# Altium schematic symbol library 8通道刺激仪.SchLib: 20 symbols
Pins are listed as number, name and electrical type; pins without a type are passive.

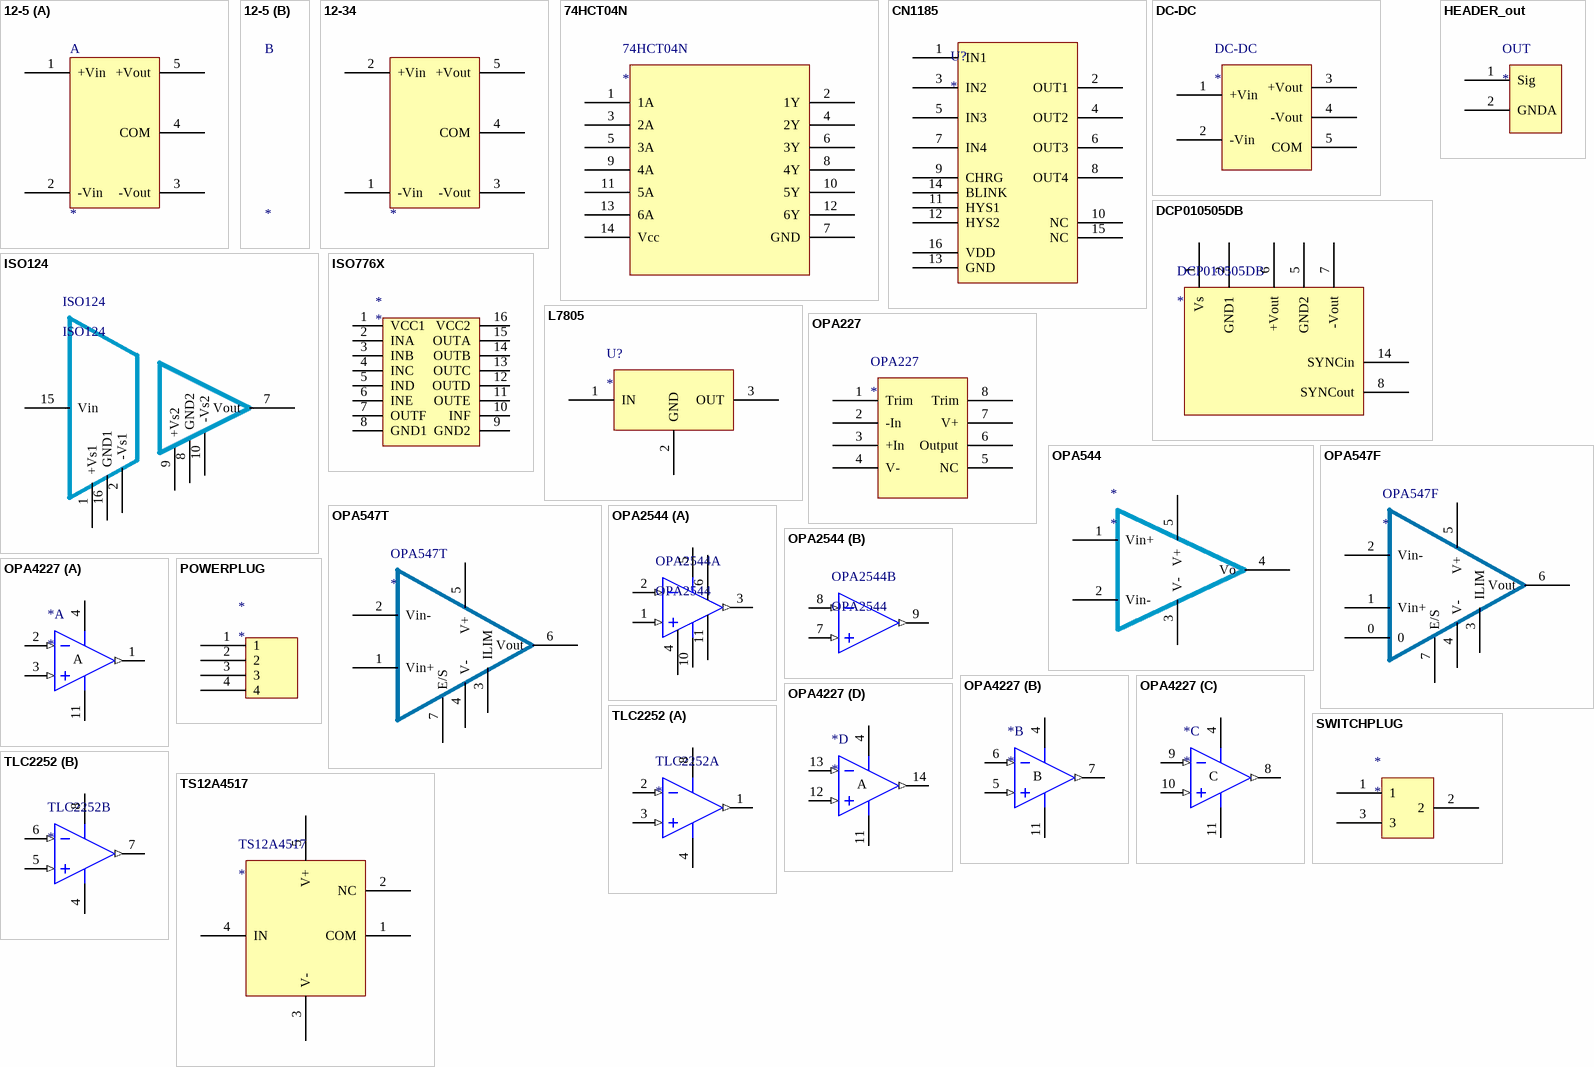
[diagram p0: symbols 12-5 to TS12A4517]

## 12-5
designator ?
part A pins: 1 +Vin, 2 -Vin, 3 -Vout, 4 COM, 5 +Vout

## 12-34
designator ?
pins: 1 -Vin, 2 +Vin, 3 -Vout, 4 COM, 5 +Vout

## 74HCT04N
designator 74HCT04N
footprint 74HCT04N(DIP14)
pins: 1 1A, 2 1Y, 3 2A, 4 2Y, 5 3A, 6 3Y, 7 GND, 8 4Y, 9 4A, 10 5Y, 11 5A, 12 6Y, 13 6A, 14 Vcc

## CN1185
designator U?
pins: 1 IN1, 2 OUT1, 3 IN2, 4 OUT2, 5 IN3, 6 OUT3, 7 IN4, 8 OUT4, 9 CHRG, 10 NC, 11 HYS1, 12 HYS2, 13 GND, 14 BLINK, 15 NC, 16 VDD

## DC-DC
designator DC-DC
footprint DCDC
pins: 1 +Vin, 2 -Vin, 3 +Vout, 4 -Vout, 5 COM

## DCP010505DB
designator DCP010505DB
footprint DCP010505DB(PDIP)
footprint dip14 (DIP; 14 Leads; Row Spacing 7.62 mm; Pitch 2.54 mm)
pins: 1 Vs, 2 GND1, 5 GND2, 6 +Vout, 7 -Vout, 8 SYNCout, 14 SYNCin

## HEADER_out
designator OUT
footprint HEADER_out
pins: 1 Sig, 2 GNDA

## ISO124
designator ISO124
footprint ISO124(P)
footprint dip-16 (DIP; 16 Leads; Row Spacing 7.62 mm; Pitch 2.54 mm)
pins: 1 +Vs1, 2 -Vs1, 7 Vout, 8 GND2, 9 +Vs2, 10 -Vs2, 15 Vin, 16 GND1

## ISO776X
designator *
footprint ISO7761
pins: 1 VCC1, 2 INA, 3 INB, 4 INC, 5 IND, 6 INE, 7 OUTF, 8 GND1, 9 GND2, 10 INF, 11 OUTE, 12 OUTD, 13 OUTC, 14 OUTB, 15 OUTA, 16 VCC2

## L7805
designator U?
pins: 1 IN, 2 GND, 3 OUT

## OPA227
designator OPA227
footprint OPA227(D)
pins: 1 Trim, 2 -In, 3 +In, 4 V-, 5 NC, 6 Output, 7 V+, 8 Trim

## OPA544
designator *
footprint OPA544T
pins: 1 Vin+, 2 Vin-, 3 V-, 4 Vo, 5 V+

## OPA547F
designator OPA547F
footprint OPA547F(KTW)
pins: 0, 1 Vin+, 2 Vin-, 3 ILIM, 4 V-, 5 V+, 6 Vout, 7 E/S

## OPA547T
designator OPA547T
footprint OPA547T(KVT)
pins: 1 Vin+, 2 Vin-, 3 ILIM, 4 V-, 5 V+, 6 Vout, 7 E/S

## OPA2544
designator OPA2544
part A pins: 1 IN+ (in), 2 IN- (in), 3 OUT (out), 4 NC, 5 V+ (power), 6 V+, 10 V- (power), 11 V-
part B pins: 7 IN+ (in), 8 IN- (in), 9 OUT (out)

## OPA4227
designator *
footprint OPA4227
part A pins: 1 OUT (out), 2 IN- (in), 3 IN+ (in), 4 V+ (power), 11 V- (power)
part B pins: 4 V+ (power), 5 IN+ (in), 6 IN- (in), 7 OUT (out), 11 V- (power)
part C pins: 4 V+ (power), 8 OUT (out), 9 IN- (in), 10 IN+ (in), 11 V- (power)
part D pins: 4 V+ (power), 11 V- (power), 12 IN+ (in), 13 IN- (in), 14 OUT (out)
part A text: A
part B text: B
part C text: C
part D text: A

## POWERPLUG
designator *
footprint POWERPLUG
pins: 1, 2, 3, 4

## SWITCHPLUG
designator *
footprint HDR1X3 (Connector; Header; 3 Position)
pins: 1, 2, 3

## TLC2252
designator TLC2252
footprint TLC2252
part A pins: 1 OUT (out), 2 IN- (in), 3 IN+ (in), 4 GND (power), 8 VDD (power)
part B pins: 4 GND (power), 5 IN+ (in), 6 IN- (in), 7 OUT (out), 8 VDD (power)

## TS12A4517
designator TS12A4517
footprint TS12A4517 (SOT23-5)
pins: 1 COM, 2 NC, 3 V-, 4 IN, 5 V+